# EAGLE library part LPR9201-(*) (library satori)
920MHz Wireless transceiver module Mount holes using MAC8 TH-1.6-*-M2 * depend on connector height 3.0 - 5.0
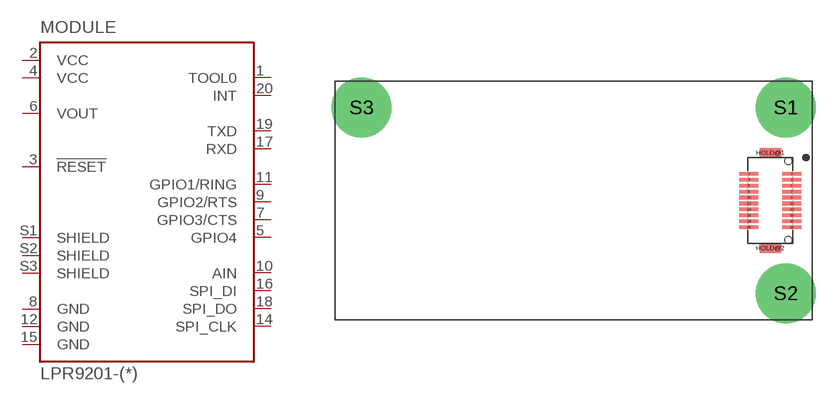
[diagram p0: symbol with the pads of DF12(*)-20DP-0.5V; footprint DF12(*)-20DP-0.5V]

Designator prefix MODULE

## LPR9201-(3.0), LPR9201-(3.5), LPR9201-(4.0), LPR9201-(5.0)  [DF12(*)-20DP-0.5V]
1  TOOL0
2  VCC  pwr
3  !RESET
4  VCC  pwr
5  GPIO4
6  VOUT  sup
7  GPIO3/CTS
8  GND  pwr
9  GPIO2/RTS
10  AIN  in
11  GPIO1/RING
12  GND  pwr
14  SPI_CLK  out
15  GND  pwr
16  SPI_DI  in
17  RXD  in
18  SPI_DO  out
19  TXD  out
20  INT  in
S1  SHIELD  pas
S2  SHIELD  pas
S3  SHIELD  pas

## Footprint DF12(*)-20DP-0.5V (pad centres in mm)
smd 1.6 x 0.3: 1 1.8,2.25; 2 -1.8,2.25; 3 1.8,1.75; 4 -1.8,1.75; 5 1.8,1.25; 6 -1.8,1.25; 7 1.8,0.75; 8 -1.8,0.75; 9 1.8,0.25; 10 -1.8,0.25; 11 1.8,-0.25; 12 -1.8,-0.25; 13 1.8,-0.75; 14 -1.8,-0.75; 15 1.8,-1.25; 16 -1.8,-1.25; 17 1.8,-1.75; 18 -1.8,-1.75; 19 1.8,-2.25; 20 -1.8,-2.25
smd 1.8 x 0.8: HOLD@1 0,4; HOLD@2 0,-4
drill 2.7 pad 5: S1 1.3,7.8; S2 1.3,-7.8; S3 -34.3,7.8
hole 0.6 at 1.5,3.3
hole 0.6 at 1.5,-3.3